# EAGLE library part PS4MEMBRANE (library PS4-sequencer)
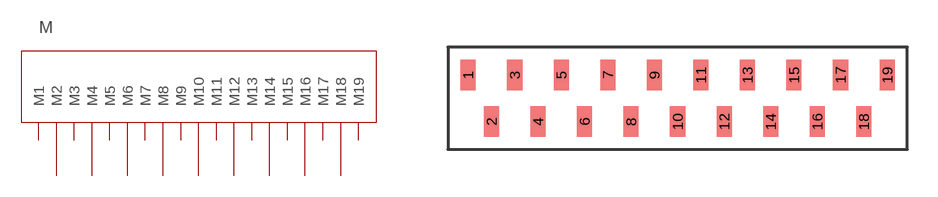
[diagram p0: symbol with the pads of PS4MEMBRANE; footprint PS4MEMBRANE]

Designator prefix M

## PS4MEMBRANE  [PS4MEMBRANE]
1  M1
2  M2  pwr
3  M3  pwr
4  M4
5  M5
6  M6
7  M7
8  M8
9  M9  pwr
10  M10  pwr
11  M11
12  M12
13  M13
14  M14
15  M15
16  M16
17  M17
18  M18
19  M19

## Footprint PS4MEMBRANE (pad centres in mm)
smd 0.752 x 1.529: 1 -10.431,1.161; 2 -9.262,-1.161; 3 -8.105,1.161; 4 -6.947,-1.161; 5 -5.789,1.161; 6 -4.631,-1.161; 7 -3.473,1.161; 8 -2.316,-1.161; 9 -1.158,1.161; 10 0,-1.161; 11 1.158,1.161; 12 2.316,-1.161; 13 3.473,1.161; 14 4.631,-1.161; 15 5.789,1.161; 16 6.947,-1.161; 17 8.105,1.161; 18 9.262,-1.161; 19 10.431,1.161